# EAGLE library part TVS_5CH_UNI_COM_ANODE (library !GPLIB_ACTIVE)
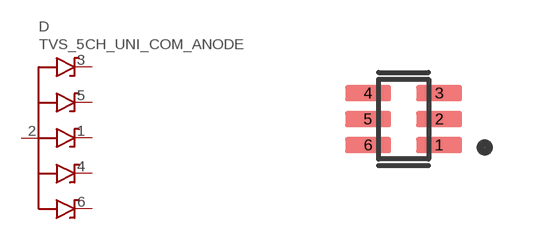
[diagram p4: symbol with the pads of SOT65P210X110-6N; footprint SOT65P210X110-6N]

Designator prefix D

## TVS_5CH_UNI_COM_ANODE_SMF05C  [SOT65P210X110-6N]
1  C  pas
2  A  pas
3  C1  pas
4  C2  pas
5  C3  pas
6  C4  pas

## Footprint SOT65P210X110-6N (pad centres in mm)
SOT-363, SC-88, SC70-6, SC-70-6
smd 1.15 x 0.4: 1 0.89,-0.65; 2 0.89,0; 3 0.89,0.65; 4 -0.89,0.65; 5 -0.89,0; 6 -0.89,-0.65